# Altium footprint library BULK.PcbLib: 1 footprints
Each footprint in its own frame and in the unit in brackets; x right, y up, seen from the top. Pads: shape width x height; smd on the part's side, far side on the other; paste and mask are expansions set on the pad; w line width, h text height; cw(c..) or ccw(c..) is an arc to the next point about the centre after c.
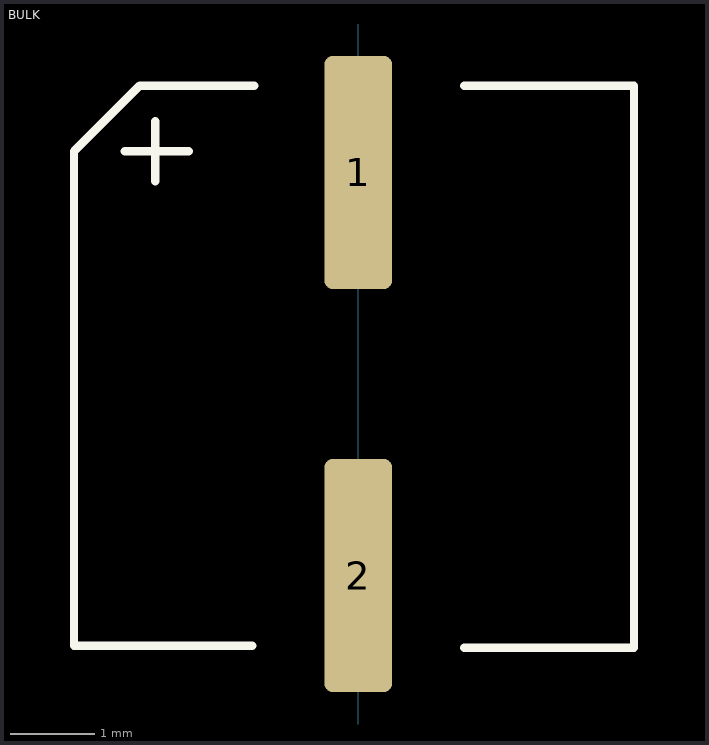
[diagram p0: the footprint, top view; thin cyan lines are the x and y axes]

## BULK [mm]
pads (2):
  rrect25% 0.8x2.75 smd: 1(0,-2) 2(0,-6.75)
Top Overlay:
  lines w0.1: -2.75,-1.75 -2,-1.75 ; -2.394,-2.103 -2.394,-1.395 ; -1.25,-7.575 -3.35,-7.575 -3.35,-1.75 -2.575,-0.975 -1.225,-0.975 -1.25,-0.975 ; 1.25,-7.6 3.25,-7.6 3.25,-0.975 1.3,-0.975 1.25,-0.975